# EAGLE library part RJ11-6 (library eagleLib v2)
RJ11 Jack Simple 6 pin RJ11 jack. Commonly found on CAT3 devices and Microchip programmers. SKU: PRT-00132
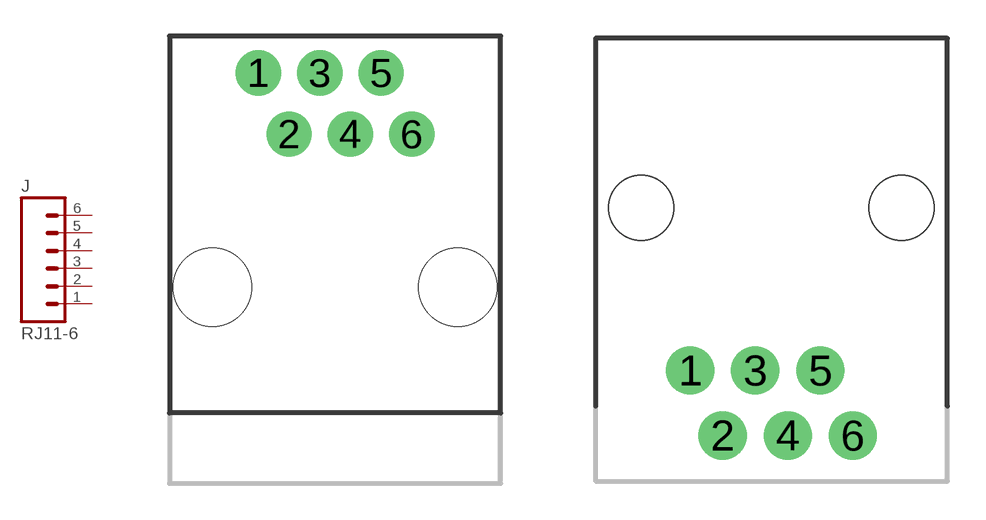
[diagram p71: symbol with the pads of RJ11-6; footprints RJ11-6, RJ11-6-VERT]

Designator prefix J

## RJ11-6PTH (EAGLEUP: RJ11-NO_SHIELD)  [RJ11-6]
1  1  pas
2  2  pas
3  3  pas
4  4  pas
5  5  pas
6  6  pas

## RJ11-6 (EAGLEUP: RJ11-NO_SHIELD)  [RJ11-6-VERT]
Pads as for RJ11-6

## Footprint RJ11-6 (pad centres in mm)
drill 1.016 pad 1.88: 1 1.905,8.89; 2 3.175,6.35; 3 4.445,8.89; 4 5.715,6.35; 5 6.985,8.89; 6 8.255,6.35
hole 3.251 at 0,0
hole 3.251 at 10.16,0

## Footprint RJ11-6-VERT (pad centres in mm)
drill 1.016 pad 1.88: 1 -3.175,-5.08; 2 -1.905,-7.62; 3 -0.635,-5.08; 4 0.635,-7.62; 5 1.905,-5.08; 6 3.175,-7.62
hole 2.54 at -5.08,1.27
hole 2.54 at 5.08,1.27